# EAGLE library part LT1933DC (library ltc_swr)
LT1933 - 600mA, 500kHz Step-Down Switching Regulator in DFN6 Wide Input Range: 3.6V to 36V 5V at 600mA from 16V to 36V Input 3.3V at 600mA from 12V to 36V Input 5V at 500mA from 6.3V to 36V Input 3.3V at 500mA from 4.5V to 36V Input Fixed Frequency 500kHz Operation Uses Tiny Capacitors and Inductors Soft-Start Internally Compensated Low Shutdown Current: <2µA Output Adjustable Down to 1.25V Low Profile (1mm) SOT-23 (ThinSOT™) and (2mm x 3mm x 0.75mm) 6-Pin DFN Packages
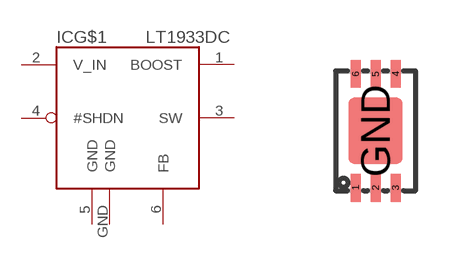
[diagram p6: symbol with the pads of DFN6; footprint DFN6]

Designator prefix IC; gates G$1=LT1616 G$2=LT3475_SUP

## LT1933DC  [DFN6]
1  G$1:BOOST  pas
2  G$1:V_IN  pas
3  G$1:SW  pas
4  G$1:#SHDN  pas
5  G$1:GND  pwr
6  G$1:FB  pas
GND  G$2:GND  pwr

## Footprint DFN6 (pad centres in mm)
smd 0.25 x 0.7: 1 -0.5,-1.425; 2 0,-1.425; 3 0.5,-1.425; 4 0.5,1.425; 5 0,1.425; 6 -0.5,1.425
smd 1.35 x 1.65: GND 0,0